# EAGLE library part CONN-RECT-26PIN-2ROW (library FirePick)
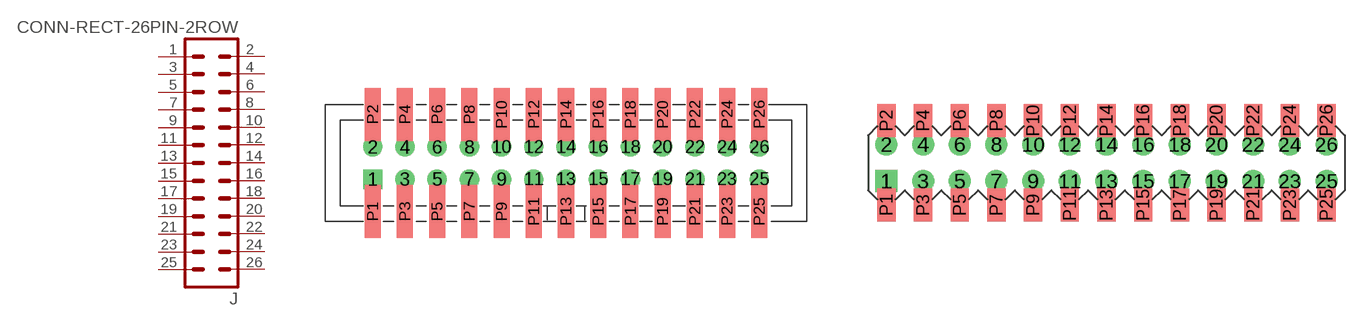
[diagram p0: symbol with the pads of CONN-RECT-2.54MM-26-PIN-ROW-SHROUDED-SMTH; footprints CONN-RECT-2.54MM-26-PIN-ROW-SHROUDED-SMTH, CONN-RECT-2.54MM-26PIN-2ROW-SMTH]

Designator prefix J

## CONN-RECT-26PIN-2ROWSHROUDED  [CONN-RECT-2.54MM-26-PIN-ROW-SHROUDED-SMTH]
1  1  pas
2  2  pas
3  3  pas
4  4  pas
5  5  pas
6  6  pas
7  7  pas
8  8  pas
9  9  pas
10  10  pas
11  11  pas
12  12  pas
13  13  pas
14  14  pas
15  15  pas
16  16  pas
17  17  pas
18  18  pas
19  19  pas
20  20  pas
21  21  pas
22  22  pas
23  23  pas
24  24  pas
25  25  pas
26  26  pas

## CONN-RECT-26PIN-2ROWUNSHROUDED_HYBRID  [CONN-RECT-2.54MM-26PIN-2ROW-SMTH]
Pads as for CONN-RECT-2.54MM-26-PIN-ROW-SHROUDED-SMTH

## CONN-RECT-26PIN-2ROWTHROUGH-HOLE  [CONN-RECT-2.54MM-26PIN-2ROW]
Pads as for CONN-RECT-2.54MM-26-PIN-ROW-SHROUDED-SMTH

## Footprint CONN-RECT-2.54MM-26-PIN-ROW-SHROUDED-SMTH (pad centres in mm)
3M P/N D2526-6V0C-AR-WE Digikey P/N MSH26ECT-ND
drill 1.016 square: 1 -15.24,-1.27
drill 1.016: 2 -15.24,1.27; 3 -12.7,-1.27; 4 -12.7,1.27; 5 -10.16,-1.27; 6 -10.16,1.27; 7 -7.62,-1.27; 8 -7.62,1.27; 9 -5.08,-1.27; 10 -5.08,1.27; 11 -2.54,-1.27; 12 -2.54,1.27; 13 0,-1.27; 14 0,1.27; 15 2.54,-1.27; 16 2.54,1.27; 17 5.08,-1.27; 18 5.08,1.27; 19 7.62,-1.27; 20 7.62,1.27; 21 10.16,-1.27; 22 10.16,1.27; 23 12.7,-1.27; 24 12.7,1.27; 25 15.24,-1.27; 26 15.24,1.27
smd 1.27 x 4.2: P1 -15.24,-3.83; P2 -15.24,3.83; P3 -12.7,-3.83; P4 -12.7,3.83; P5 -10.16,-3.83; P6 -10.16,3.83; P7 -7.62,-3.83; P8 -7.62,3.83; P9 -5.08,-3.83; P10 -5.08,3.83; P11 -2.54,-3.83; P12 -2.54,3.83; P13 0,-3.83; P14 0,3.83; P15 2.54,-3.83; P16 2.54,3.83; P17 5.08,-3.83; P18 5.08,3.83; P19 7.62,-3.83; P20 7.62,3.83; P21 10.16,-3.83; P22 10.16,3.83; P23 12.7,-3.83; P24 12.7,3.83; P25 15.24,-3.83; P26 15.24,3.83

## Footprint CONN-RECT-2.54MM-26PIN-2ROW-SMTH (pad centres in mm)
drill 1.016 square: 1 -15.24,-1.27
drill 1.016: 2 -15.24,1.27; 3 -12.7,-1.27; 4 -12.7,1.27; 5 -10.16,-1.27; 6 -10.16,1.27; 7 -7.62,-1.27; 8 -7.62,1.27; 9 -5.08,-1.27; 10 -5.08,1.27; 11 -2.54,-1.27; 12 -2.54,1.27; 13 0,-1.27; 14 0,1.27; 15 2.54,-1.27; 16 2.54,1.27; 17 5.08,-1.27; 18 5.08,1.27; 19 7.62,-1.27; 20 7.62,1.27; 21 10.16,-1.27; 22 10.16,1.27; 23 12.7,-1.27; 24 12.7,1.27; 25 15.24,-1.27; 26 15.24,1.27
smd 1.27 x 2.3: P1 -15.24,-2.93; P2 -15.24,2.93; P3 -12.7,-2.93; P4 -12.7,2.93; P5 -10.16,-2.93; P6 -10.16,2.93; P7 -7.62,-2.93; P8 -7.62,2.93; P9 -5.08,-2.93; P10 -5.08,2.93; P11 -2.54,-2.93; P12 -2.54,2.93; P13 0,-2.93; P14 0,2.93; P15 2.54,-2.93; P16 2.54,2.93; P17 5.08,-2.93; P18 5.08,2.93; P19 7.62,-2.93; P20 7.62,2.93; P21 10.16,-2.93; P22 10.16,2.93; P23 12.7,-2.93; P24 12.7,2.93; P25 15.24,-2.93; P26 15.24,2.93

## Footprint CONN-RECT-2.54MM-26PIN-2ROW (pad centres in mm)
drill 1.016 square: 1 -15.24,-1.27
drill 1.016: 2 -15.24,1.27; 3 -12.7,-1.27; 4 -12.7,1.27; 5 -10.16,-1.27; 6 -10.16,1.27; 7 -7.62,-1.27; 8 -7.62,1.27; 9 -5.08,-1.27; 10 -5.08,1.27; 11 -2.54,-1.27; 12 -2.54,1.27; 13 0,-1.27; 14 0,1.27; 15 2.54,-1.27; 16 2.54,1.27; 17 5.08,-1.27; 18 5.08,1.27; 19 7.62,-1.27; 20 7.62,1.27; 21 10.16,-1.27; 22 10.16,1.27; 23 12.7,-1.27; 24 12.7,1.27; 25 15.24,-1.27; 26 15.24,1.27